# EAGLE library part METROMINI (library Linus Eagle Library)
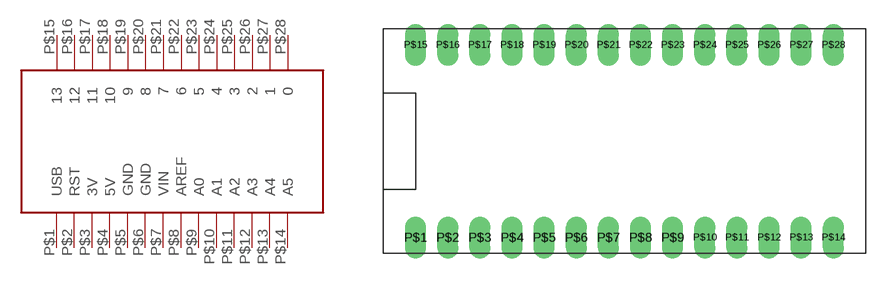
[diagram p4: symbol with the pads of METROMINI; footprint METROMINI]

Designator prefix -

## METROMINI  [METROMINI]
P$1  USB
P$2  RST
P$3  3V
P$4  5V
P$5  GND
P$6  GND
P$7  VIN
P$8  AREF
P$9  A0
P$10  A1
P$11  A2
P$12  A3
P$13  A4
P$14  A5
P$15  13
P$16  12
P$17  11
P$18  10
P$19  9
P$20  8
P$21  7
P$22  6
P$23  5
P$24  4
P$25  3
P$26  2
P$27  1
P$28  0

## Footprint METROMINI (pad centres in mm)
drill 1.016 pad 1.651 long: P$1 -22.86,0; P$2 -20.32,0; P$3 -17.78,0; P$4 -15.24,0; P$5 -12.7,0; P$6 -10.16,0; P$7 -7.62,0; P$8 -5.08,0; P$9 -2.54,0; P$10 0,0; P$11 2.54,0; P$12 5.08,0; P$13 7.62,0; P$14 10.16,0; P$15 -22.86,15.24; P$16 -20.32,15.24; P$17 -17.78,15.24; P$18 -15.24,15.24; P$19 -12.7,15.24; P$20 -10.16,15.24; P$21 -7.62,15.24; P$22 -5.08,15.24; P$23 -2.54,15.24; P$24 0,15.24; P$25 2.54,15.24; P$26 5.08,15.24; P$27 7.62,15.24; P$28 10.16,15.24